# Altium integrated library PMIC-ETA3410D2I-T_DFN8-2X2_.IntLib: 1 symbol
Pins are listed as number, name and electrical type; pins without a type are passive.

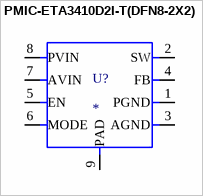
[diagram p0: symbol PMIC-ETA3410D2I-T(DFN8-2X2)]

## PMIC-ETA3410D2I-T(DFN8-2X2)
designator U?
310030161; MP: ETA3410D2I-T; Package: None; Price: None; Value: *; Availability: Unavailable
footprint DFN8G-0.5-2X2MM
pins: 1 PGND (io), 2 SW (io), 3 AGND (io), 4 FB (io), 5 EN (io), 6 MODE (io), 7 AVIN (io), 8 PVIN (io), 9 PAD (io)